# EAGLE library part HEADER-7P (library Deegou_Connector)
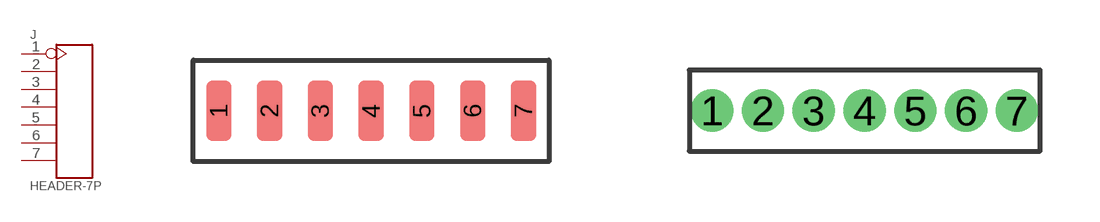
[diagram p38: symbol with the pads of 7P-1.27-SMD; footprints 7P-1.27-SMD, 1X7P-1.27-THT]

Designator prefix J

## HEADER-7P-1.27-SMD  [7P-1.27-SMD]
1  1
2  2
3  3
4  4
5  5
6  6
7  7

## HEADER-7P-1.27-THT  [1X7P-1.27-THT]
Pads as for 7P-1.27-SMD

## HEADER-7P-5.08  [7P-SCREW-5.08]
Pads as for 7P-1.27-SMD

## HEADER-7P-2.54  [7P-2.54-60/35MIL]
Pads as for 7P-1.27-SMD

## Footprint 7P-1.27-SMD (pad centres in mm)
smd 0.635 x 1.524: 1 0,0; 2 1.27,0; 3 2.54,0; 4 3.81,0; 5 5.08,0; 6 6.35,0; 7 7.62,0

## Footprint 1X7P-1.27-THT (pad centres in mm)
drill 0.55: 1 -3.81,0; 2 -2.54,0; 3 -1.27,0; 4 0,0; 5 1.27,0; 6 2.54,0; 7 3.81,0

## Footprint 7P-SCREW-5.08 (pad centres in mm)
drill 1.4 pad 2.54: 1 -15.24,0; 2 -10.16,0; 3 -5.08,0; 4 0,0; 5 5.08,0; 6 10.16,0; 7 15.24,0

## Footprint 7P-2.54-60/35MIL (pad centres in mm)
drill 0.889 pad 1.651 square: 1 0,7.62
drill 0.889 pad 1.651: 2 0,5.08; 3 0,2.54; 4 0,0; 5 0,-2.54; 6 0,-5.08; 7 0,-7.62